# Altium integrated library PowerJack.IntLib: 1 symbol
Pins are listed as number, name and electrical type; pins without a type are passive.

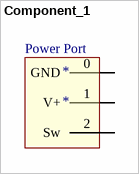
[diagram p0: symbol Component_1]

## Component_1
designator *
footprint PCBComponent_1
pins: 0 GND, 1 V+, 2 Sw
text: Power Port